# EAGLE library part 5_TOUCH_SWITCHES (library teelsys-0.2)
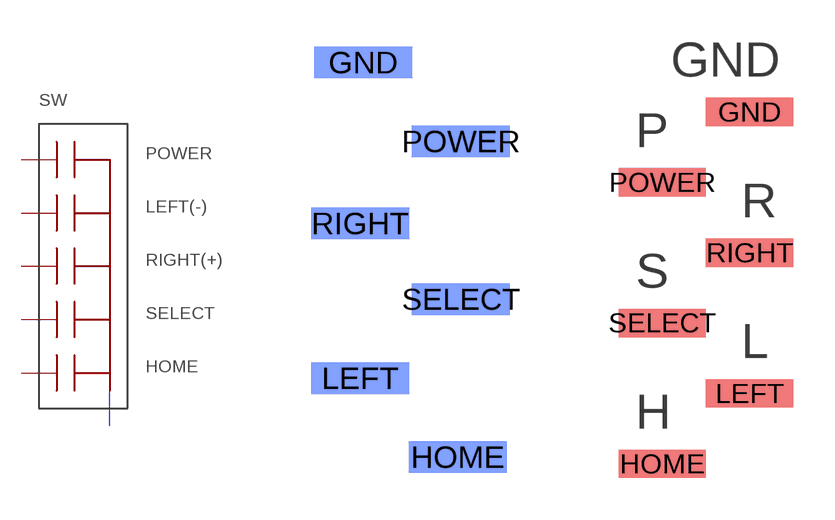
[diagram p0: symbol with the pads of 5_TOUCH_SWITCHES_BOTTOM; footprints 5_TOUCH_SWITCHES_BOTTOM, 5_TOUCH_SWITCHES_TOP]

Designator prefix SW

## 5_TOUCH_SWITCHES  [5_TOUCH_SWITCHES_BOTTOM]
GND  GND
HOME  HOME
LEFT  LEFT
POWER  POWER
RIGHT  RIGHT
SELECT  SELECT

## 5_TOUCH_SWITCHES5_TOUCH_SWITCHES_TOP  [5_TOUCH_SWITCHES_TOP]
Pads as for 5_TOUCH_SWITCHES_BOTTOM

## 5_TOUCH_SWITCHESTOUCH_PAD  [TOUCH_PAD]
Pads as for 5_TOUCH_SWITCHES_BOTTOM

## Footprint 5_TOUCH_SWITCHES_BOTTOM (pad centres in mm)
smd 3.15 x 1.02 bottom: GND -3.04,12.7; HOME 0,0; LEFT -3.14,2.54; POWER 0.1,10.16; RIGHT -3.14,7.52; SELECT 0.1,5.08

## Footprint 5_TOUCH_SWITCHES_TOP (pad centres in mm)
smd 3.15 x 1.02: GND 1.575,6.35; HOME -1.575,-6.35; LEFT 1.575,-3.81; POWER -1.575,3.81; RIGHT 1.575,1.27; SELECT -1.575,-1.27

## Footprint TOUCH_PAD (pad centres in mm)
smd 2.54 x 2.54 bottom: GND 24.13,-13.97
smd 12.7 x 12.7 bottom: HOME 0,-19.05; LEFT 19.05,0; POWER 0,19.05; RIGHT -19.05,0; SELECT 0,0